# Altium integrated library Linear Technology Power Management Energy Harvesting.IntLib: 169 symbols (part 6 of 13)
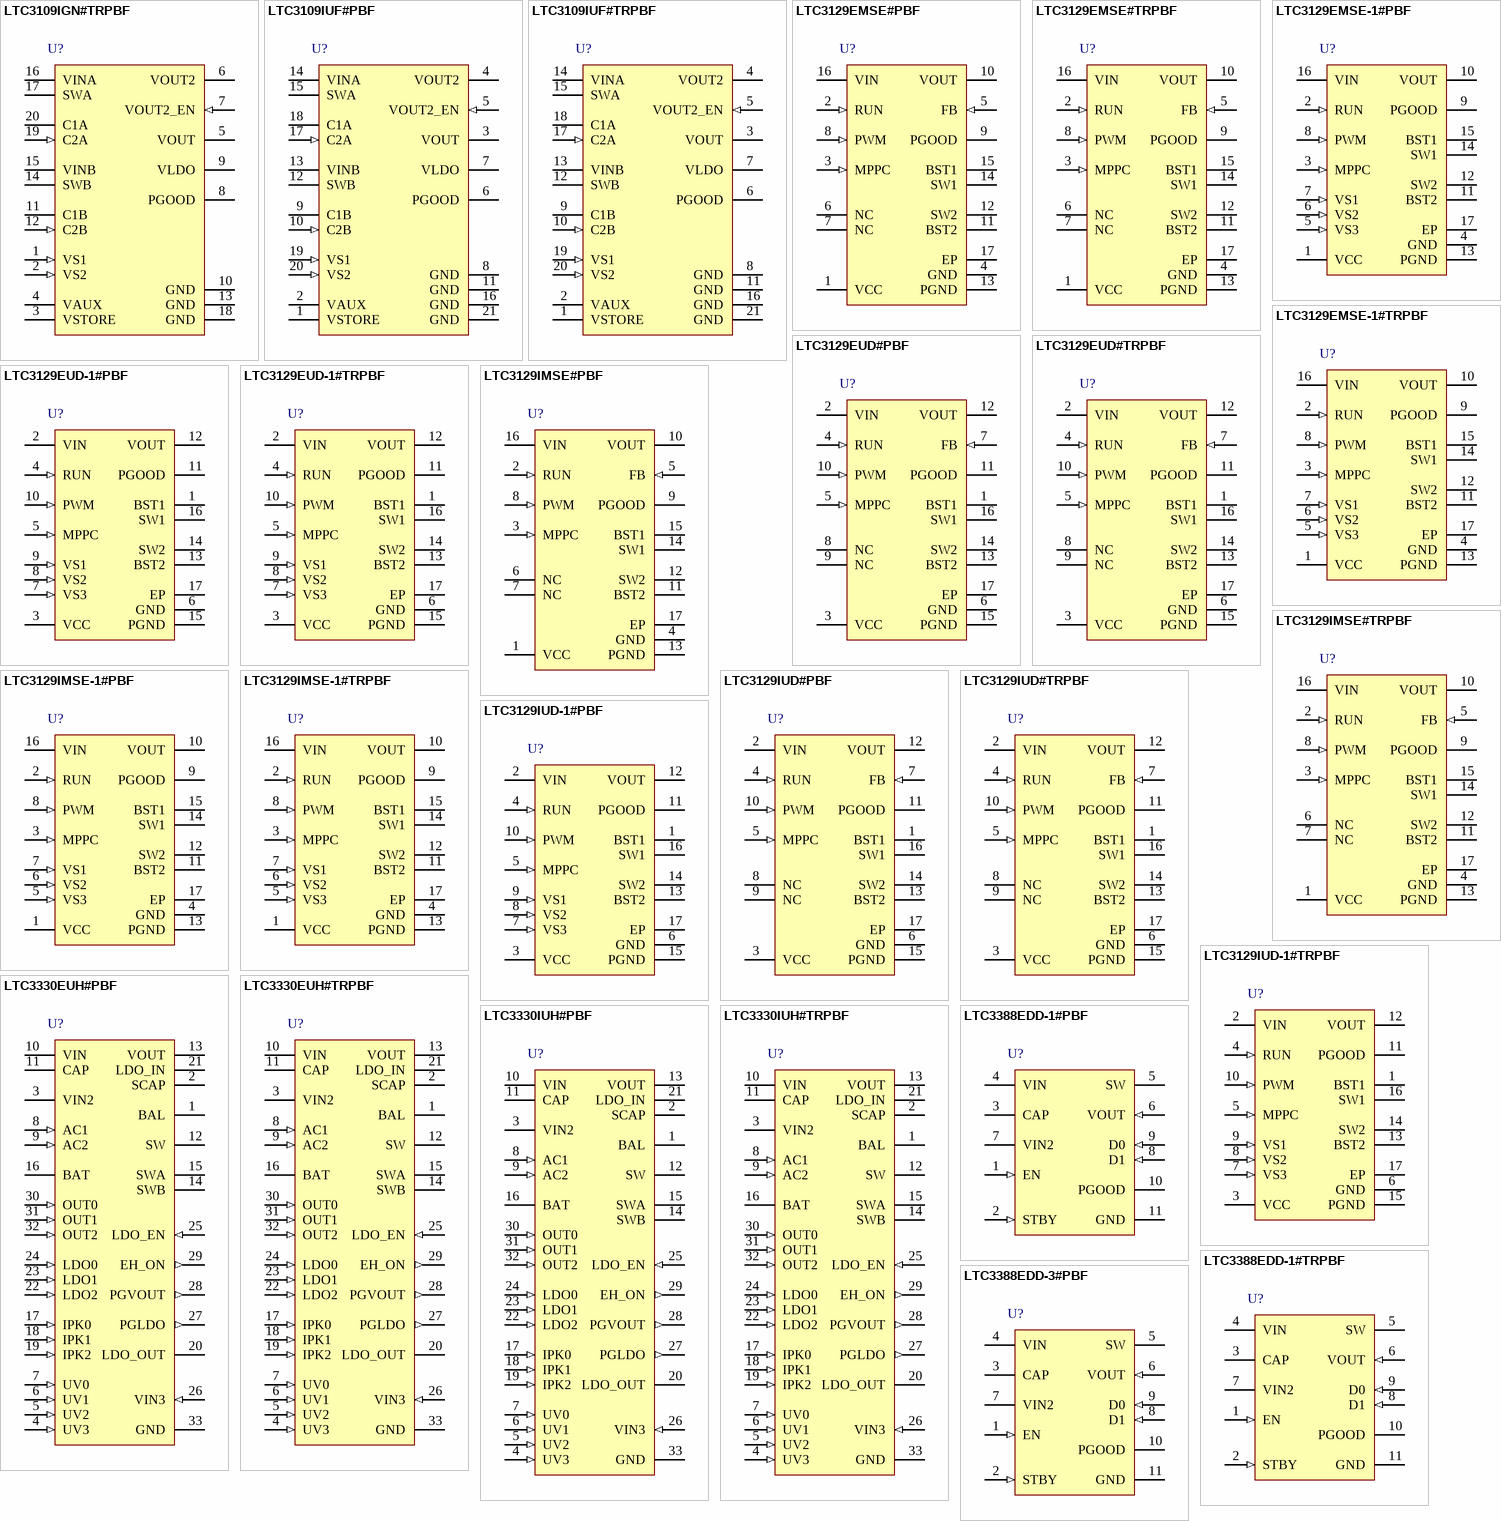
[diagram p10: symbols LTC3109IGN#TRPBF to LTC3388EDD-3#PBF]

## LTC3129EMSE#PBF
designator U?
15 V, 200 mA Synchronous Buck-Boost DC/DC Converter with 1.3 uA Quiescent Current, 16-pin SOP (MSE-16), -40 to 125 degC, Pb-Free; Manufacturer: Linear Technology; PartNumber: LTC3129EMSE#PBF; Number of Outputs: 1; Vin Max(V): 15; Vin Min(V): 1.92; Vout Max(V): 15.5; PackageVersion: Rev. F, 05/2013; PackageReference: MSE-16; PackageDescription: 16-Pin Plastic MSOP, Exposed Die Pad, Body 4.039 x 3 mm, Pitch 0.5 mm; Supplier 1: Digi-Key; Supplier Part Number 1: LTC3129EMSE#PBF-ND; Supplier 2: Farnell; Supplier Part Number 2: 2313426; Supplier 3: Newark; Supplier Part Number 3: 71W8436; RoHS: TRUE; Topology: Buck-Boost; Mounting Technology: Surface Mount; ComponentLink1Description: Manufacturer URL; ComponentLink1URL: http://www.linear.com/; ComponentLink2Description: Datasheet; ComponentLink2URL: http://cds.linear.com/docs/en/datasheet/3129f.pdf; ComponentLink3Description: Package Specification; ComponentLink3URL: http://cds.linear.com/docs/en/packaging/05081667_F_MSE16.pdf
footprint LT-MSE-16-EDP_N (SOP, 16-Leads, Body 4.1x3.1mm, Pitch 0.5mm, Thermal Pad 2.95x1.76mm, IPC Medium Density)
footprint LT-MSE-16-EDP_L (SOP, 16-Leads, Body 4.1x3.1mm, Pitch 0.5mm, Thermal Pad 2.95x1.76mm, IPC High Density)
footprint LT-MSE-16-EDP_M (SOP, 16-Leads, Body 4.1x3.1mm, Pitch 0.5mm, Thermal Pad 2.95x1.76mm, IPC Low Density)
pins: 1 VCC (power) "Output voltage of the internal voltage  regulator. This is the supply pin for the internal circuitry.  Bypass this output with a minimum of 2.2uF ceramic  capacitor close to the pin. This pin may be back-driven  by an (See Datasheet)", 2 RUN (in) "Input to the Run Comparator. Pull this  pin above 1.1V to enable the VCC regulator and above 1.28V  to enable the converter. Connecting this pin to a resistor  divider from VIN to ground allows programming a VIN start (See Datasheet)", 3 MPPC (in) "Maximum Power Point Control Programming Pin. Connect this pin to a resistor divider from  VIN to ground to enable the MPPC functionality. If the VOUT load is greater than what the power source can provide,  the MPPC will (See Datasheet)", 4 GND (power) "Signal Ground. Provide a short direct  PCB path between GND and the ground plane where the  exposed pad is soldered.", 5 FB (in) "Feedback Input to the Error Amplifier. V OUT = 1.175V • [1+(R1/R2)]. Note this pin is very noise  sensitive, therefore minimize trace length and stray capacitance. Connect to a resistor divider from VOUT to ground. The(See Datasheet)", 6 NC "Unused. These pins should be  grounded.", 7 NC "Unused. These pins should be  grounded.", 8 PWM (in) "Mode Select Pin. PWM = Low (ground): Enables automatic Burst Mode  operation. PWM = High (tie to VCC): Fixed frequency PMW operation. This pin should not be allowed to float. It has an internal  5M pull-down resistor.", 9 PGOOD (oc) "Open drain output that pulls to  ground when FB drops too far below its regulated voltage. Connect a pull-up resistor from this pin to a positive  supply. This pin can sink up to the absolute maximum  rating of 15mA when low.(See Datasheet)", 10 VOUT (power) "Output voltage of the converter.  Connect a minimum value of 4.7uF ceramic capacitor from  this pin to the ground plane, as close to the pin as possible.", 11 BST2 "Bootstrapped floating supply for  high side NMOS gate drive. Connect to SW2 through a  22nF capacitor, as close to the part as possible. The value  is not critical. Any value from 4.7nF to 47nF may be used.", 12 SW2 "Switch Pin. Connect to one side of  the inductor. Keep PCB trace lengths as short and wide  as possible to reduce EMI.", 13 PGND (power) "Power Ground. Provide a short direct PCB  path between PGND and the ground plane. The exposed  pad must also be soldered to the PCB ground plane. It  serves as a power ground connection, and as a means of  conducting heat (See Datasheet)", 14 SW1 "Switch Pin. Connect to one side of  the inductor. Keep PCB trace lengths as short and wide  as possible to reduce EMI.", 15 BST1 "Bootstrapped Floating Supply for  High Side NMOS Gate Drive. Connect to SW1 through a  22nF capacitor, as close to the part as possible. The value  is not critical. Any value from 4.7nF to 47nF may be used.", 16 VIN (power) "Input Voltage for the Converter. Connect  a minimum of 4.7uF ceramic decoupling capacitor from  this pin to the ground plane, as close to the pin as possible.", 17 EP (power) "Power Ground. Provide a short direct PCB  path between PGND and the ground plane. The exposed  pad must also be soldered to the PCB ground plane. It  serves as a power ground connection, and as a means of  conducting heat (See Datasheet)"

## LTC3129EMSE#TRPBF
designator U?
15 V, 200 mA Synchronous Buck-Boost DC/DC Converter with 1.3 uA Quiescent Current, 16-pin SOP (MSE-16), -40 to 125 degC, Pb-Free, Tape and Reel; Manufacturer: Linear Technology; PartNumber: LTC3129EMSE#TRPBF; Number of Outputs: 1; Vin Max(V): 15; Vin Min(V): 1.92; Vout Max(V): 15.75; PackageVersion: Rev. F, 05/2013; PackageReference: MSE-16; PackageDescription: 16-Pin Plastic MSOP, Exposed Die Pad, Body 4.039 x 3 mm, Pitch 0.5 mm; Supplier 1: Digi-Key; Supplier Part Number 1: LTC3129EMSE#TRPBF-ND; Supplier 2: Newark; Supplier Part Number 2: 71W8437; Packing: Tape and Reel; RoHS: TRUE; Topology: Buck-Boost; Mounting Technology: Surface Mount; ComponentLink1Description: Manufacturer URL; ComponentLink1URL: http://www.linear.com/; ComponentLink2Description: Datasheet; ComponentLink2URL: http://cds.linear.com/docs/en/datasheet/3129f.pdf; ComponentLink3Description: Package Specification; ComponentLink3URL: http://cds.linear.com/docs/en/packaging/05081667_F_MSE16.pdf
footprint LT-MSE-16-EDP_N (SOP, 16-Leads, Body 4.1x3.1mm, Pitch 0.5mm, Thermal Pad 2.95x1.76mm, IPC Medium Density)
footprint LT-MSE-16-EDP_L (SOP, 16-Leads, Body 4.1x3.1mm, Pitch 0.5mm, Thermal Pad 2.95x1.76mm, IPC High Density)
footprint LT-MSE-16-EDP_M (SOP, 16-Leads, Body 4.1x3.1mm, Pitch 0.5mm, Thermal Pad 2.95x1.76mm, IPC Low Density)
pins: 1 VCC (power) "Output voltage of the internal voltage  regulator. This is the supply pin for the internal circuitry.  Bypass this output with a minimum of 2.2uF ceramic  capacitor close to the pin. This pin may be back-driven  by an (See Datasheet)", 2 RUN (in) "Input to the Run Comparator. Pull this  pin above 1.1V to enable the VCC regulator and above 1.28V  to enable the converter. Connecting this pin to a resistor  divider from VIN to ground allows programming a VIN start (See Datasheet)", 3 MPPC (in) "Maximum Power Point Control Programming Pin. Connect this pin to a resistor divider from  VIN to ground to enable the MPPC functionality. If the VOUT load is greater than what the power source can provide,  the MPPC will (See Datasheet)", 4 GND (power) "Signal Ground. Provide a short direct  PCB path between GND and the ground plane where the  exposed pad is soldered.", 5 FB (in) "Feedback Input to the Error Amplifier. V OUT = 1.175V • [1+(R1/R2)]. Note this pin is very noise  sensitive, therefore minimize trace length and stray capacitance. Connect to a resistor divider from VOUT to ground. The(See Datasheet)", 6 NC "Unused. These pins should be  grounded.", 7 NC "Unused. These pins should be  grounded.", 8 PWM (in) "Mode Select Pin. PWM = Low (ground): Enables automatic Burst Mode  operation. PWM = High (tie to VCC): Fixed frequency PMW operation. This pin should not be allowed to float. It has an internal  5M pull-down resistor.", 9 PGOOD (oc) "Open drain output that pulls to  ground when FB drops too far below its regulated voltage. Connect a pull-up resistor from this pin to a positive  supply. This pin can sink up to the absolute maximum  rating of 15mA when low.(See Datasheet)", 10 VOUT (power) "Output voltage of the converter.  Connect a minimum value of 4.7uF ceramic capacitor from  this pin to the ground plane, as close to the pin as possible.", 11 BST2 "Bootstrapped floating supply for  high side NMOS gate drive. Connect to SW2 through a  22nF capacitor, as close to the part as possible. The value  is not critical. Any value from 4.7nF to 47nF may be used.", 12 SW2 "Switch Pin. Connect to one side of  the inductor. Keep PCB trace lengths as short and wide  as possible to reduce EMI.", 13 PGND (power) "Power Ground. Provide a short direct PCB  path between PGND and the ground plane. The exposed  pad must also be soldered to the PCB ground plane. It  serves as a power ground connection, and as a means of  conducting heat (See Datasheet)", 14 SW1 "Switch Pin. Connect to one side of  the inductor. Keep PCB trace lengths as short and wide  as possible to reduce EMI.", 15 BST1 "Bootstrapped Floating Supply for  High Side NMOS Gate Drive. Connect to SW1 through a  22nF capacitor, as close to the part as possible. The value  is not critical. Any value from 4.7nF to 47nF may be used.", 16 VIN (power) "Input Voltage for the Converter. Connect  a minimum of 4.7uF ceramic decoupling capacitor from  this pin to the ground plane, as close to the pin as possible.", 17 EP (power) "Power Ground. Provide a short direct PCB  path between PGND and the ground plane. The exposed  pad must also be soldered to the PCB ground plane. It  serves as a power ground connection, and as a means of  conducting heat (See Datasheet)"

## LTC3129EMSE-1#PBF
designator U?
15 V, 200 mA Synchronous Buck-Boost DC/DC Converter with 1.3 uA Quiescent Current, 16-pin SOP (MSE-16), -40 to 125 degC, Pb-Free; Manufacturer: Linear Technology; PartNumber: LTC3129EMSE-1#PBF; Number of Outputs: 1; Vin Max(V): 15; Vin Min(V): 1.92; Vout Max(V): 15.5; PackageVersion: Rev. F, 05/2013; PackageReference: MSE-16; PackageDescription: 16-Pin Plastic MSOP, Exposed Die Pad, Body 4.039 x 3 mm, Pitch 0.5 mm; Supplier 1: Digi-Key; Supplier Part Number 1: LTC3129EMSE-1#PBF-ND; Supplier 2: Farnell; Supplier Part Number 2: 2313427; Supplier 3: Newark; Supplier Part Number 3: 71W8434; RoHS: TRUE; Topology: Buck-Boost; Mounting Technology: Surface Mount; ComponentLink1Description: Manufacturer URL; ComponentLink1URL: http://www.linear.com/; ComponentLink2Description: Datasheet; ComponentLink2URL: http://cds.linear.com/docs/en/datasheet/31291f.pdf; ComponentLink3Description: Package Specification; ComponentLink3URL: http://cds.linear.com/docs/en/packaging/05081667_F_MSE16.pdf
footprint LT-MSE-16-EDP_N (SOP, 16-Leads, Body 4.1x3.1mm, Pitch 0.5mm, Thermal Pad 2.95x1.76mm, IPC Medium Density)
footprint LT-MSE-16-EDP_L (SOP, 16-Leads, Body 4.1x3.1mm, Pitch 0.5mm, Thermal Pad 2.95x1.76mm, IPC High Density)
footprint LT-MSE-16-EDP_M (SOP, 16-Leads, Body 4.1x3.1mm, Pitch 0.5mm, Thermal Pad 2.95x1.76mm, IPC Low Density)
pins: 1 VCC (power) "Output Voltage of the Internal Voltage Regulator. This is the supply pin for the internal circuitry. Bypass this output with a minimum of 2.2uF ceramic capacitor close to the pin. This pin may be back-driven by an external (See Datasheet)", 2 RUN (in) "Input to the Run Comparator. Pull this pin above 1.1V to enable the VCC regulator and above 1.28V to enable the converter. Connecting this pin to a resistor divider from VIN to ground allows programming a VIN start threshold (See Datasheet)", 3 MPPC (in) "Maximum Power Point Control Programming Pin. Connect this pin to a resistor divider from VIN to ground to enable the MPPC functionality. If the VOUT load is greater than what the power source can provide, the MPPC will (See Datasheet)", 4 GND (power) "Signal Ground. Provide a short direct PCB path between GND and the ground plane where the exposed pad is soldered.", 5 VS3 (in) "Output Voltage Select Pin. Connect this pin to ground or VCC to program the output voltage (see Table 1). This pin should not float or go below ground. If this pin is externally driven above VCC, a 1M resistor should be (See Datasheet)", 6 VS2 (in) "Output Voltage Select Pin. Connect this pin to ground or VCC to program the output voltage (see Table 1). This pin should not float or go below ground.", 7 VS1 (in) "Output Voltage Select Pin. Connect this pin to ground or VCC to program the output voltage (see Table 1). This pin should not float or go below ground.", 8 PWM (in) "Mode Select Pin. PWM = Low (ground): Enables automatic Burst Mode PWM = Low (ground): Enables automatic Burst Mode operation. PWM = High (tie to VCC): Fixed frequency PWM operation. This pin should not be allowed to float. (See Datasheet)", 9 PGOOD (oc) "Open drain output that pulls to ground when FB drops too far below its regulated voltage. Connect a pull-up resistor from this pin to a positive supply. This pin can sink up to the absolute maximum rating of 15mA when low. (See Datasheet)", 10 VOUT (power) "Output voltage of the converter, set by the VS1-VS3 programming pins according to Table 1. Connect a minimum value of 4.7uF ceramic capacitor from this pin to the ground plane, as close to the pin as possible.", 11 BST2 "Boot-Strapped Floating Supply for High Side NMOS Gate Drive. Connect to SW2 through a 22nF capacitor, as close to the part as possible. The value is not critical. Any value from 4.7nF to 47nF may be used", 12 SW2 "Switch Pin. Connect to one side of the inductor. Keep PCB trace lengths as short and wide as possible to reduce EMI.", 13 PGND (power) "Power Ground. Provide a short direct PCB path between PGND and the ground plane.", 14 SW1 "Switch Pin. Connect to one side of the inductor. Keep PCB trace lengths as short and wide as possible to reduce EMI.", 15 BST1 "Boot-Strapped Floating Supply for High Side NMOS Gate Drive. Connect to SW1 through a 22nF capacitor, as close to the part as possible. The value is not critical. Any value from 4.7nF to 47nF may be used.", 16 VIN (power) "Input Voltage for the Converter. Connect a minimum of 4.7uF ceramic decoupling capacitor from this pin to the ground plane, as close to the pin as possible.", 17 EP (power) "The exposed pad must also be soldered to the PCB ground plane. It serves as a power ground connection, and as a means of conducting heat away from the die."

## LTC3129EMSE-1#TRPBF
designator U?
15 V, 200 mA Synchronous Buck-Boost DC/DC Converter with 1.3 uA Quiescent Current, 16-pin SOP (MSE-16), -40 to 125 degC, Pb-Free, Tape and Reel; Manufacturer: Linear Technology; PartNumber: LTC3129EMSE-1#TRPBF; Number of Outputs: 1; Vin Max(V): 15; Vin Min(V): 1.92; Vout Max(V): 15.5; PackageVersion: Rev. F, 05/2013; PackageReference: MSE-16; PackageDescription: 16-Pin Plastic MSOP, Exposed Die Pad, Body 4.039 x 3 mm, Pitch 0.5 mm; Supplier 1: Digi-Key; Supplier Part Number 1: LTC3129EMSE-1#TRPBF-ND; Supplier 2: Newark; Supplier Part Number 2: 71W8435; Packing: Tape and Reel; RoHS: TRUE; Topology: Buck-Boost; Mounting Technology: Surface Mount; ComponentLink1Description: Manufacturer URL; ComponentLink1URL: http://www.linear.com/; ComponentLink2Description: Datasheet; ComponentLink2URL: http://cds.linear.com/docs/en/datasheet/31291f.pdf; ComponentLink3Description: Package Specification; ComponentLink3URL: http://cds.linear.com/docs/en/packaging/05081667_F_MSE16.pdf
footprint LT-MSE-16-EDP_N (SOP, 16-Leads, Body 4.1x3.1mm, Pitch 0.5mm, Thermal Pad 2.95x1.76mm, IPC Medium Density)
footprint LT-MSE-16-EDP_L (SOP, 16-Leads, Body 4.1x3.1mm, Pitch 0.5mm, Thermal Pad 2.95x1.76mm, IPC High Density)
footprint LT-MSE-16-EDP_M (SOP, 16-Leads, Body 4.1x3.1mm, Pitch 0.5mm, Thermal Pad 2.95x1.76mm, IPC Low Density)
pins: 1 VCC (power) "Output Voltage of the Internal Voltage Regulator. This is the supply pin for the internal circuitry. Bypass this output with a minimum of 2.2uF ceramic capacitor close to the pin. This pin may be back-driven by an external (See Datasheet)", 2 RUN (in) "Input to the Run Comparator. Pull this pin above 1.1V to enable the VCC regulator and above 1.28V to enable the converter. Connecting this pin to a resistor divider from VIN to ground allows programming a VIN start threshold (See Datasheet)", 3 MPPC (in) "Maximum Power Point Control Programming Pin. Connect this pin to a resistor divider from VIN to ground to enable the MPPC functionality. If the VOUT load is greater than what the power source can provide, the MPPC will (See Datasheet)", 4 GND (power) "Signal Ground. Provide a short direct PCB path between GND and the ground plane where the exposed pad is soldered.", 5 VS3 (in) "Output Voltage Select Pin. Connect this pin to ground or VCC to program the output voltage (see Table 1). This pin should not float or go below ground. If this pin is externally driven above VCC, a 1M resistor should be (See Datasheet)", 6 VS2 (in) "Output Voltage Select Pin. Connect this pin to ground or VCC to program the output voltage (see Table 1). This pin should not float or go below ground.", 7 VS1 (in) "Output Voltage Select Pin. Connect this pin to ground or VCC to program the output voltage (see Table 1). This pin should not float or go below ground.", 8 PWM (in) "Mode Select Pin. PWM = Low (ground): Enables automatic Burst Mode PWM = Low (ground): Enables automatic Burst Mode operation. PWM = High (tie to VCC): Fixed frequency PWM operation. This pin should not be allowed to float. (See Datasheet)", 9 PGOOD (oc) "Open drain output that pulls to ground when FB drops too far below its regulated voltage. Connect a pull-up resistor from this pin to a positive supply. This pin can sink up to the absolute maximum rating of 15mA when low. (See Datasheet)", 10 VOUT (power) "Output voltage of the converter, set by the VS1-VS3 programming pins according to Table 1. Connect a minimum value of 4.7uF ceramic capacitor from this pin to the ground plane, as close to the pin as possible.", 11 BST2 "Boot-Strapped Floating Supply for High Side NMOS Gate Drive. Connect to SW2 through a 22nF capacitor, as close to the part as possible. The value is not critical. Any value from 4.7nF to 47nF may be used", 12 SW2 "Switch Pin. Connect to one side of the inductor. Keep PCB trace lengths as short and wide as possible to reduce EMI.", 13 PGND (power) "Power Ground. Provide a short direct PCB path between PGND and the ground plane.", 14 SW1 "Switch Pin. Connect to one side of the inductor. Keep PCB trace lengths as short and wide as possible to reduce EMI.", 15 BST1 "Boot-Strapped Floating Supply for High Side NMOS Gate Drive. Connect to SW1 through a 22nF capacitor, as close to the part as possible. The value is not critical. Any value from 4.7nF to 47nF may be used.", 16 VIN (power) "Input Voltage for the Converter. Connect a minimum of 4.7uF ceramic decoupling capacitor from this pin to the ground plane, as close to the pin as possible.", 17 EP (power) "The exposed pad must also be soldered to the PCB ground plane. It serves as a power ground connection, and as a means of conducting heat away from the die."

## LTC3129EUD#PBF
designator U?
15 V, 200 mA Synchronous Buck-Boost DC/DC Converter with 1.3 uA Quiescent Current, 16-pin QFN (UD-16-EPV-AA), -40 to 125 degC, Pb-Free; Manufacturer: Linear Technology; PartNumber: LTC3129EUD#PBF; Number of Outputs: 1; Vin Max(V): 15; Vin Min(V): 1.92; Vout Max(V): 15.75; PackageVersion: Rev. A, 06/2010; PackageReference: UD-16; PackageDescription: 16-Pin Plastic QFN, Body 3 x 3 mm, Pitch 0.5 mm; Supplier 1: Digi-Key; Supplier Part Number 1: LTC3129EUD#PBF-ND; Supplier 2: Farnell; Supplier Part Number 2: 2313428; Supplier 3: Newark; Supplier Part Number 3: 71W8440; RoHS: TRUE; Topology: Buck-Boost; Mounting Technology: Surface Mount; Code_JEDEC: MO-220; ComponentLink1Description: Manufacturer URL; ComponentLink1URL: http://www.linear.com/; ComponentLink2Description: Datasheet; ComponentLink2URL: http://cds.linear.com/docs/en/datasheet/3129f.pdf; ComponentLink3Description: Package Specification; ComponentLink3URL: http://cds.linear.com/docs/en/packaging/QFN_16_05-08-1700.pdf
footprint LT-UD-16-EPV-AA_N (QFN, 16-Leads, Body 3.1x3.1mm, Pitch 0.5mm, Thermal Pad 1.65x1.65mm, IPC Medium Density)
footprint LT-UD-16-EPV-AA_L (QFN, 16-Leads, Body 3.1x3.1mm, Pitch 0.5mm, Thermal Pad 1.65x1.65mm, IPC High Density)
footprint LT-UD-16-EPV-AA_M (QFN, 16-Leads, Body 3.1x3.1mm, Pitch 0.5mm, Thermal Pad 1.65x1.65mm, IPC Low Density)
pins: 1 BST1 "Bootstrapped Floating Supply for  High Side NMOS Gate Drive. Connect to SW1 through a  22nF capacitor, as close to the part as possible. The value  is not critical. Any value from 4.7nF to 47nF may be used.", 2 VIN (power) "Input Voltage for the Converter. Connect  a minimum of 4.7uF ceramic decoupling capacitor from  this pin to the ground plane, as close to the pin as possible.", 3 VCC (power) "Output voltage of the internal voltage  regulator. This is the supply pin for the internal circuitry.  Bypass this output with a minimum of 2.2uF ceramic  capacitor close to the pin. This pin may be back-driven  by an (See Datasheet)", 4 RUN (in) "Input to the Run Comparator. Pull this  pin above 1.1V to enable the VCC regulator and above 1.28V  to enable the converter. Connecting this pin to a resistor  divider from VIN to ground allows programming a VIN start (See Datasheet)", 5 MPPC (in) "Maximum Power Point Control Programming Pin. Connect this pin to a resistor divider from  VIN to ground to enable the MPPC functionality. If the VOUT load is greater than what the power source can provide,  the MPPC will (See Datasheet)", 6 GND (power) "Signal Ground. Provide a short direct  PCB path between GND and the ground plane where the  exposed pad is soldered.", 7 FB (in) "Feedback Input to the Error Amplifier. V OUT = 1.175V • [1+(R1/R2)]. Note this pin is very noise  sensitive, therefore minimize trace length and stray capacitance. Connect to a resistor divider from VOUT to ground. The(See Datasheet)", 8 NC "Unused. These pins should be  grounded.", 9 NC "Unused. These pins should be  grounded.", 10 PWM (in) "Mode Select Pin. PWM = Low (ground): Enables automatic Burst Mode  operation. PWM = High (tie to VCC): Fixed frequency PMW operation. This pin should not be allowed to float. It has an internal  5M pull-down resistor.", 11 PGOOD (oc) "Open drain output that pulls to  ground when FB drops too far below its regulated voltage. Connect a pull-up resistor from this pin to a positive  supply. This pin can sink up to the absolute maximum  rating of 15mA when low.(See Datasheet)", 12 VOUT (power) "Output voltage of the converter.  Connect a minimum value of 4.7uF ceramic capacitor from  this pin to the ground plane, as close to the pin as possible.", 13 BST2 "Bootstrapped floating supply for  high side NMOS gate drive. Connect to SW2 through a  22nF capacitor, as close to the part as possible. The value  is not critical. Any value from 4.7nF to 47nF may be used.", 14 SW2 "Switch Pin. Connect to one side of  the inductor. Keep PCB trace lengths as short and wide  as possible to reduce EMI.", 15 PGND (power) "Power Ground. Provide a short direct PCB  path between PGND and the ground plane. The exposed  pad must also be soldered to the PCB ground plane. It  serves as a power ground connection, and as a means of  conducting heat (See Datasheet)", 16 SW1 "Switch Pin. Connect to one side of  the inductor. Keep PCB trace lengths as short and wide  as possible to reduce EMI.", 17 EP (power) "Power Ground. Provide a short direct PCB  path between PGND and the ground plane. The exposed  pad must also be soldered to the PCB ground plane. It  serves as a power ground connection, and as a means of  conducting heat (See Datasheet)"

## LTC3129EUD#TRPBF
designator U?
15 V, 200 mA Synchronous Buck-Boost DC/DC Converter with 1.3 uA Quiescent Current, 16-pin QFN (UD-16-EPV-AA), -40 to 125 degC, Pb-Free, Tape and Reel; Manufacturer: Linear Technology; PartNumber: LTC3129EUD#TRPBF; Number of Outputs: 1; Vin Max(V): 15; Vin Min(V): 1.92; Vout Max(V): 15.75; PackageVersion: Rev. A, 06/2010; PackageReference: UD-16; PackageDescription: 16-Pin Plastic QFN, Body 3 x 3 mm, Pitch 0.5 mm; Supplier 1: Digi-Key; Supplier Part Number 1: LTC3129EUD#TRPBF-ND; Supplier 2: Newark; Supplier Part Number 2: 71W8441; Packing: Tape and Reel; RoHS: TRUE; Topology: Buck-Boost; Mounting Technology: Surface Mount; Code_JEDEC: MO-220; ComponentLink1Description: Manufacturer URL; ComponentLink1URL: http://www.linear.com/; ComponentLink2Description: Datasheet; ComponentLink2URL: http://cds.linear.com/docs/en/datasheet/3129f.pdf; ComponentLink3Description: Package Specification; ComponentLink3URL: http://cds.linear.com/docs/en/packaging/QFN_16_05-08-1700.pdf
footprint LT-UD-16-EPV-AA_N (QFN, 16-Leads, Body 3.1x3.1mm, Pitch 0.5mm, Thermal Pad 1.65x1.65mm, IPC Medium Density)
footprint LT-UD-16-EPV-AA_L (QFN, 16-Leads, Body 3.1x3.1mm, Pitch 0.5mm, Thermal Pad 1.65x1.65mm, IPC High Density)
footprint LT-UD-16-EPV-AA_M (QFN, 16-Leads, Body 3.1x3.1mm, Pitch 0.5mm, Thermal Pad 1.65x1.65mm, IPC Low Density)
pins: 1 BST1 "Bootstrapped Floating Supply for  High Side NMOS Gate Drive. Connect to SW1 through a  22nF capacitor, as close to the part as possible. The value  is not critical. Any value from 4.7nF to 47nF may be used.", 2 VIN (power) "Input Voltage for the Converter. Connect  a minimum of 4.7uF ceramic decoupling capacitor from  this pin to the ground plane, as close to the pin as possible.", 3 VCC (power) "Output voltage of the internal voltage  regulator. This is the supply pin for the internal circuitry.  Bypass this output with a minimum of 2.2uF ceramic  capacitor close to the pin. This pin may be back-driven  by an (See Datasheet)", 4 RUN (in) "Input to the Run Comparator. Pull this  pin above 1.1V to enable the VCC regulator and above 1.28V  to enable the converter. Connecting this pin to a resistor  divider from VIN to ground allows programming a VIN start (See Datasheet)", 5 MPPC (in) "Maximum Power Point Control Programming Pin. Connect this pin to a resistor divider from  VIN to ground to enable the MPPC functionality. If the VOUT load is greater than what the power source can provide,  the MPPC will (See Datasheet)", 6 GND (power) "Signal Ground. Provide a short direct  PCB path between GND and the ground plane where the  exposed pad is soldered.", 7 FB (in) "Feedback Input to the Error Amplifier. V OUT = 1.175V • [1+(R1/R2)]. Note this pin is very noise  sensitive, therefore minimize trace length and stray capacitance. Connect to a resistor divider from VOUT to ground. The(See Datasheet)", 8 NC "Unused. These pins should be  grounded.", 9 NC "Unused. These pins should be  grounded.", 10 PWM (in) "Mode Select Pin. PWM = Low (ground): Enables automatic Burst Mode  operation. PWM = High (tie to VCC): Fixed frequency PMW operation. This pin should not be allowed to float. It has an internal  5M pull-down resistor.", 11 PGOOD (oc) "Open drain output that pulls to  ground when FB drops too far below its regulated voltage. Connect a pull-up resistor from this pin to a positive  supply. This pin can sink up to the absolute maximum  rating of 15mA when low.(See Datasheet)", 12 VOUT (power) "Output voltage of the converter.  Connect a minimum value of 4.7uF ceramic capacitor from  this pin to the ground plane, as close to the pin as possible.", 13 BST2 "Bootstrapped floating supply for  high side NMOS gate drive. Connect to SW2 through a  22nF capacitor, as close to the part as possible. The value  is not critical. Any value from 4.7nF to 47nF may be used.", 14 SW2 "Switch Pin. Connect to one side of  the inductor. Keep PCB trace lengths as short and wide  as possible to reduce EMI.", 15 PGND (power) "Power Ground. Provide a short direct PCB  path between PGND and the ground plane. The exposed  pad must also be soldered to the PCB ground plane. It  serves as a power ground connection, and as a means of  conducting heat (See Datasheet)", 16 SW1 "Switch Pin. Connect to one side of  the inductor. Keep PCB trace lengths as short and wide  as possible to reduce EMI.", 17 EP (power) "Power Ground. Provide a short direct PCB  path between PGND and the ground plane. The exposed  pad must also be soldered to the PCB ground plane. It  serves as a power ground connection, and as a means of  conducting heat (See Datasheet)"

## LTC3129EUD-1#PBF
designator U?
15 V, 200 mA Synchronous Buck-Boost DC/DC Converter with 1.3 uA Quiescent Current, 16-pin QFN (UD-16-EPV-AA), -40 to 125 degC, Pb-Free; Manufacturer: Linear Technology; PartNumber: LTC3129EUD-1#PBF; Number of Outputs: 1; Vin Max(V): 15; Vin Min(V): 1.92; Vout Max(V): 15.5; PackageVersion: Rev. A, 06/2010; PackageReference: UD-16; PackageDescription: 16-Pin Plastic QFN, Body 3 x 3 mm, Pitch 0.5 mm; Supplier 1: Digi-Key; Supplier Part Number 1: LTC3129EUD-1#PBF-ND; Supplier 2: Farnell; Supplier Part Number 2: 2313429; Supplier 3: Newark; Supplier Part Number 3: 71W8438; RoHS: TRUE; Topology: Buck-Boost; Mounting Technology: Surface Mount; Code_JEDEC: MO-220; ComponentLink1Description: Manufacturer URL; ComponentLink1URL: http://www.linear.com/; ComponentLink2Description: Datasheet; ComponentLink2URL: http://cds.linear.com/docs/en/datasheet/31291f.pdf; ComponentLink3Description: Package Specification; ComponentLink3URL: http://cds.linear.com/docs/en/packaging/QFN_16_05-08-1700.pdf
footprint LT-UD-16-EPV-AA_N (QFN, 16-Leads, Body 3.1x3.1mm, Pitch 0.5mm, Thermal Pad 1.65x1.65mm, IPC Medium Density)
footprint LT-UD-16-EPV-AA_L (QFN, 16-Leads, Body 3.1x3.1mm, Pitch 0.5mm, Thermal Pad 1.65x1.65mm, IPC High Density)
footprint LT-UD-16-EPV-AA_M (QFN, 16-Leads, Body 3.1x3.1mm, Pitch 0.5mm, Thermal Pad 1.65x1.65mm, IPC Low Density)
pins: 1 BST1 "Boot-Strapped Floating Supply for High Side NMOS Gate Drive. Connect to SW1 through a 22nF capacitor, as close to the part as possible. The value is not critical. Any value from 4.7nF to 47nF may be used.", 2 VIN (power) "Input Voltage for the Converter. Connect a minimum of 4.7uF ceramic decoupling capacitor from this pin to the ground plane, as close to the pin as possible.", 3 VCC (power) "Output Voltage of the Internal Voltage Regulator. This is the supply pin for the internal circuitry. Bypass this output with a minimum of 2.2uF ceramic capacitor close to the pin. This pin may be back-driven by an external (See Datasheet)", 4 RUN (in) "Input to the Run Comparator. Pull this pin above 1.1V to enable the VCC regulator and above 1.28V to enable the converter. Connecting this pin to a resistor divider from VIN to ground allows programming a VIN start threshold (See Datasheet)", 5 MPPC (in) "Maximum Power Point Control Programming Pin. Connect this pin to a resistor divider from VIN to ground to enable the MPPC functionality. If the VOUT load is greater than what the power source can provide, the MPPC will (See Datasheet)", 6 GND (power) "Signal Ground. Provide a short direct PCB path between GND and the ground plane where the exposed pad is soldered.", 7 VS3 (in) "Output Voltage Select Pin. Connect this pin to ground or VCC to program the output voltage (see Table 1). This pin should not float or go below ground. If this pin is externally driven above VCC, a 1M resistor should be (See Datasheet)", 8 VS2 (in) "Output Voltage Select Pin. Connect this pin to ground or VCC to program the output voltage (see Table 1). This pin should not float or go below ground.", 9 VS1 (in) "Output Voltage Select Pin. Connect this pin to ground or VCC to program the output voltage (see Table 1). This pin should not float or go below ground.", 10 PWM (in) "Mode Select Pin. PWM = Low (ground): Enables automatic Burst Mode PWM = Low (ground): Enables automatic Burst Mode operation. PWM = High (tie to VCC): Fixed frequency PWM operation. This pin should not be allowed to float. (See Datasheet)", 11 PGOOD (oc) "Open drain output that pulls to ground when FB drops too far below its regulated voltage. Connect a pull-up resistor from this pin to a positive supply. This pin can sink up to the absolute maximum rating of 15mA when low. (See Datasheet)", 12 VOUT (power) "Output voltage of the converter, set by the VS1-VS3 programming pins according to Table 1. Connect a minimum value of 4.7uF ceramic capacitor from this pin to the ground plane, as close to the pin as possible.", 13 BST2 "Boot-Strapped Floating Supply for High Side NMOS Gate Drive. Connect to SW2 through a 22nF capacitor, as close to the part as possible. The value is not critical. Any value from 4.7nF to 47nF may be used", 14 SW2 "Switch Pin. Connect to one side of the inductor. Keep PCB trace lengths as short and wide as possible to reduce EMI.", 15 PGND (power) "Power Ground. Provide a short direct PCB path between PGND and the ground plane.", 16 SW1 "Switch Pin. Connect to one side of the inductor. Keep PCB trace lengths as short and wide as possible to reduce EMI.", 17 EP (power) "The exposed pad must also be soldered to the PCB ground plane. It serves as a power ground connection, and as a means of conducting heat away from the die."

## LTC3129EUD-1#TRPBF
designator U?
15 V, 200 mA Synchronous Buck-Boost DC/DC Converter with 1.3 uA Quiescent Current, 16-pin QFN (UD-16-EPV-AA), -40 to 125 degC, Pb-Free, Tape and Reel; Manufacturer: Linear Technology; PartNumber: LTC3129EUD-1#TRPBF; Number of Outputs: 1; Vin Max(V): 15; Vin Min(V): 1.92; Vout Max(V): 15.5; PackageVersion: Rev. A, 06/2010; PackageReference: UD-16; PackageDescription: 16-Pin Plastic QFN, Body 3 x 3 mm, Pitch 0.5 mm; Supplier 1: Digi-Key; Supplier Part Number 1: LTC3129EUD-1#TRPBF-ND; Supplier 2: Newark; Supplier Part Number 2: 71W8439; Packing: Tape and Reel; RoHS: TRUE; Topology: Buck-Boost; Mounting Technology: Surface Mount; Code_JEDEC: MO-220; ComponentLink1Description: Manufacturer URL; ComponentLink1URL: http://www.linear.com/; ComponentLink2Description: Datasheet; ComponentLink2URL: http://cds.linear.com/docs/en/datasheet/31291f.pdf; ComponentLink3Description: Package Specification; ComponentLink3URL: http://cds.linear.com/docs/en/packaging/QFN_16_05-08-1700.pdf
footprint LT-UD-16-EPV-AA_N (QFN, 16-Leads, Body 3.1x3.1mm, Pitch 0.5mm, Thermal Pad 1.65x1.65mm, IPC Medium Density)
footprint LT-UD-16-EPV-AA_L (QFN, 16-Leads, Body 3.1x3.1mm, Pitch 0.5mm, Thermal Pad 1.65x1.65mm, IPC High Density)
footprint LT-UD-16-EPV-AA_M (QFN, 16-Leads, Body 3.1x3.1mm, Pitch 0.5mm, Thermal Pad 1.65x1.65mm, IPC Low Density)
pins: 1 BST1 "Boot-Strapped Floating Supply for High Side NMOS Gate Drive. Connect to SW1 through a 22nF capacitor, as close to the part as possible. The value is not critical. Any value from 4.7nF to 47nF may be used.", 2 VIN (power) "Input Voltage for the Converter. Connect a minimum of 4.7uF ceramic decoupling capacitor from this pin to the ground plane, as close to the pin as possible.", 3 VCC (power) "Output Voltage of the Internal Voltage Regulator. This is the supply pin for the internal circuitry. Bypass this output with a minimum of 2.2uF ceramic capacitor close to the pin. This pin may be back-driven by an external (See Datasheet)", 4 RUN (in) "Input to the Run Comparator. Pull this pin above 1.1V to enable the VCC regulator and above 1.28V to enable the converter. Connecting this pin to a resistor divider from VIN to ground allows programming a VIN start threshold (See Datasheet)", 5 MPPC (in) "Maximum Power Point Control Programming Pin. Connect this pin to a resistor divider from VIN to ground to enable the MPPC functionality. If the VOUT load is greater than what the power source can provide, the MPPC will (See Datasheet)", 6 GND (power) "Signal Ground. Provide a short direct PCB path between GND and the ground plane where the exposed pad is soldered.", 7 VS3 (in) "Output Voltage Select Pin. Connect this pin to ground or VCC to program the output voltage (see Table 1). This pin should not float or go below ground. If this pin is externally driven above VCC, a 1M resistor should be (See Datasheet)", 8 VS2 (in) "Output Voltage Select Pin. Connect this pin to ground or VCC to program the output voltage (see Table 1). This pin should not float or go below ground.", 9 VS1 (in) "Output Voltage Select Pin. Connect this pin to ground or VCC to program the output voltage (see Table 1). This pin should not float or go below ground.", 10 PWM (in) "Mode Select Pin. PWM = Low (ground): Enables automatic Burst Mode PWM = Low (ground): Enables automatic Burst Mode operation. PWM = High (tie to VCC): Fixed frequency PWM operation. This pin should not be allowed to float. (See Datasheet)", 11 PGOOD (oc) "Open drain output that pulls to ground when FB drops too far below its regulated voltage. Connect a pull-up resistor from this pin to a positive supply. This pin can sink up to the absolute maximum rating of 15mA when low. (See Datasheet)", 12 VOUT (power) "Output voltage of the converter, set by the VS1-VS3 programming pins according to Table 1. Connect a minimum value of 4.7uF ceramic capacitor from this pin to the ground plane, as close to the pin as possible.", 13 BST2 "Boot-Strapped Floating Supply for High Side NMOS Gate Drive. Connect to SW2 through a 22nF capacitor, as close to the part as possible. The value is not critical. Any value from 4.7nF to 47nF may be used", 14 SW2 "Switch Pin. Connect to one side of the inductor. Keep PCB trace lengths as short and wide as possible to reduce EMI.", 15 PGND (power) "Power Ground. Provide a short direct PCB path between PGND and the ground plane.", 16 SW1 "Switch Pin. Connect to one side of the inductor. Keep PCB trace lengths as short and wide as possible to reduce EMI.", 17 EP (power) "The exposed pad must also be soldered to the PCB ground plane. It serves as a power ground connection, and as a means of conducting heat away from the die."

## LTC3129IMSE#PBF
designator U?
15 V, 200 mA Synchronous Buck-Boost DC/DC Converter with 1.3 uA Quiescent Current, 16-pin SOP (MSE-16), -40 to 125 degC, Pb-Free; Manufacturer: Linear Technology; PartNumber: LTC3129IMSE#PBF; Number of Outputs: 1; Vin Max(V): 15; Vin Min(V): 1.92; Vout Max(V): 15.75; PackageVersion: Rev. F, 05/2013; PackageReference: MSE-16; PackageDescription: 16-Pin Plastic MSOP, Exposed Die Pad, Body 4.039 x 3 mm, Pitch 0.5 mm; Supplier 1: Digi-Key; Supplier Part Number 1: LTC3129IMSE#PBF-ND; Supplier 2: Farnell; Supplier Part Number 2: 2313430; Supplier 3: Newark; Supplier Part Number 3: 71W8444; RoHS: TRUE; Topology: Buck-Boost; Mounting Technology: Surface Mount; ComponentLink1Description: Manufacturer URL; ComponentLink1URL: http://www.linear.com/; ComponentLink2Description: Datasheet; ComponentLink2URL: http://cds.linear.com/docs/en/datasheet/3129f.pdf; ComponentLink3Description: Package Specification; ComponentLink3URL: http://cds.linear.com/docs/en/packaging/05081667_F_MSE16.pdf
footprint LT-MSE-16-EDP_N (SOP, 16-Leads, Body 4.1x3.1mm, Pitch 0.5mm, Thermal Pad 2.95x1.76mm, IPC Medium Density)
footprint LT-MSE-16-EDP_L (SOP, 16-Leads, Body 4.1x3.1mm, Pitch 0.5mm, Thermal Pad 2.95x1.76mm, IPC High Density)
footprint LT-MSE-16-EDP_M (SOP, 16-Leads, Body 4.1x3.1mm, Pitch 0.5mm, Thermal Pad 2.95x1.76mm, IPC Low Density)
pins: 1 VCC (power) "Output voltage of the internal voltage  regulator. This is the supply pin for the internal circuitry.  Bypass this output with a minimum of 2.2uF ceramic  capacitor close to the pin. This pin may be back-driven  by an (See Datasheet)", 2 RUN (in) "Input to the Run Comparator. Pull this  pin above 1.1V to enable the VCC regulator and above 1.28V  to enable the converter. Connecting this pin to a resistor  divider from VIN to ground allows programming a VIN start (See Datasheet)", 3 MPPC (in) "Maximum Power Point Control Programming Pin. Connect this pin to a resistor divider from  VIN to ground to enable the MPPC functionality. If the VOUT load is greater than what the power source can provide,  the MPPC will (See Datasheet)", 4 GND (power) "Signal Ground. Provide a short direct  PCB path between GND and the ground plane where the  exposed pad is soldered.", 5 FB (in) "Feedback Input to the Error Amplifier. V OUT = 1.175V • [1+(R1/R2)]. Note this pin is very noise  sensitive, therefore minimize trace length and stray capacitance. Connect to a resistor divider from VOUT to ground. The(See Datasheet)", 6 NC "Unused. These pins should be  grounded.", 7 NC "Unused. These pins should be  grounded.", 8 PWM (in) "Mode Select Pin. PWM = Low (ground): Enables automatic Burst Mode  operation. PWM = High (tie to VCC): Fixed frequency PMW operation. This pin should not be allowed to float. It has an internal  5M pull-down resistor.", 9 PGOOD (oc) "Open drain output that pulls to  ground when FB drops too far below its regulated voltage. Connect a pull-up resistor from this pin to a positive  supply. This pin can sink up to the absolute maximum  rating of 15mA when low.(See Datasheet)", 10 VOUT (power) "Output voltage of the converter.  Connect a minimum value of 4.7uF ceramic capacitor from  this pin to the ground plane, as close to the pin as possible.", 11 BST2 "Bootstrapped floating supply for  high side NMOS gate drive. Connect to SW2 through a  22nF capacitor, as close to the part as possible. The value  is not critical. Any value from 4.7nF to 47nF may be used.", 12 SW2 "Switch Pin. Connect to one side of  the inductor. Keep PCB trace lengths as short and wide  as possible to reduce EMI.", 13 PGND (power) "Power Ground. Provide a short direct PCB  path between PGND and the ground plane. The exposed  pad must also be soldered to the PCB ground plane. It  serves as a power ground connection, and as a means of  conducting heat (See Datasheet)", 14 SW1 "Switch Pin. Connect to one side of  the inductor. Keep PCB trace lengths as short and wide  as possible to reduce EMI.", 15 BST1 "Bootstrapped Floating Supply for  High Side NMOS Gate Drive. Connect to SW1 through a  22nF capacitor, as close to the part as possible. The value  is not critical. Any value from 4.7nF to 47nF may be used.", 16 VIN (power) "Input Voltage for the Converter. Connect  a minimum of 4.7uF ceramic decoupling capacitor from  this pin to the ground plane, as close to the pin as possible.", 17 EP (power) "Power Ground. Provide a short direct PCB  path between PGND and the ground plane. The exposed  pad must also be soldered to the PCB ground plane. It  serves as a power ground connection, and as a means of  conducting heat (See Datasheet)"

## LTC3129IMSE#TRPBF
designator U?
15 V, 200 mA Synchronous Buck-Boost DC/DC Converter with 1.3 uA Quiescent Current, 16-pin SOP (MSE-16), -40 to 125 degC, Pb-Free, Tape and Reel; Manufacturer: Linear Technology; PartNumber: LTC3129IMSE#TRPBF; Number of Outputs: 1; Vin Max(V): 15; Vin Min(V): 1.92; Vout Max(V): 15.5; PackageVersion: Rev. F, 05/2013; PackageReference: MSE-16; PackageDescription: 16-Pin Plastic MSOP, Exposed Die Pad, Body 4.039 x 3 mm, Pitch 0.5 mm; Supplier 1: Digi-Key; Supplier Part Number 1: LTC3129IMSE#TRPBF-ND; Supplier 2: Newark; Supplier Part Number 2: 71W8445; Packing: Tape and Reel; RoHS: TRUE; Topology: Buck-Boost; Mounting Technology: Surface Mount; ComponentLink1Description: Manufacturer URL; ComponentLink1URL: http://www.linear.com/; ComponentLink2Description: Datasheet; ComponentLink2URL: http://cds.linear.com/docs/en/datasheet/3129f.pdf; ComponentLink3Description: Package Specification; ComponentLink3URL: http://cds.linear.com/docs/en/packaging/05081667_F_MSE16.pdf
footprint LT-MSE-16-EDP_N (SOP, 16-Leads, Body 4.1x3.1mm, Pitch 0.5mm, Thermal Pad 2.95x1.76mm, IPC Medium Density)
footprint LT-MSE-16-EDP_L (SOP, 16-Leads, Body 4.1x3.1mm, Pitch 0.5mm, Thermal Pad 2.95x1.76mm, IPC High Density)
footprint LT-MSE-16-EDP_M (SOP, 16-Leads, Body 4.1x3.1mm, Pitch 0.5mm, Thermal Pad 2.95x1.76mm, IPC Low Density)
pins: 1 VCC (power) "Output voltage of the internal voltage  regulator. This is the supply pin for the internal circuitry.  Bypass this output with a minimum of 2.2uF ceramic  capacitor close to the pin. This pin may be back-driven  by an (See Datasheet)", 2 RUN (in) "Input to the Run Comparator. Pull this  pin above 1.1V to enable the VCC regulator and above 1.28V  to enable the converter. Connecting this pin to a resistor  divider from VIN to ground allows programming a VIN start (See Datasheet)", 3 MPPC (in) "Maximum Power Point Control Programming Pin. Connect this pin to a resistor divider from  VIN to ground to enable the MPPC functionality. If the VOUT load is greater than what the power source can provide,  the MPPC will (See Datasheet)", 4 GND (power) "Signal Ground. Provide a short direct  PCB path between GND and the ground plane where the  exposed pad is soldered.", 5 FB (in) "Feedback Input to the Error Amplifier. V OUT = 1.175V • [1+(R1/R2)]. Note this pin is very noise  sensitive, therefore minimize trace length and stray capacitance. Connect to a resistor divider from VOUT to ground. The(See Datasheet)", 6 NC "Unused. These pins should be  grounded.", 7 NC "Unused. These pins should be  grounded.", 8 PWM (in) "Mode Select Pin. PWM = Low (ground): Enables automatic Burst Mode  operation. PWM = High (tie to VCC): Fixed frequency PMW operation. This pin should not be allowed to float. It has an internal  5M pull-down resistor.", 9 PGOOD (oc) "Open drain output that pulls to  ground when FB drops too far below its regulated voltage. Connect a pull-up resistor from this pin to a positive  supply. This pin can sink up to the absolute maximum  rating of 15mA when low.(See Datasheet)", 10 VOUT (power) "Output voltage of the converter.  Connect a minimum value of 4.7uF ceramic capacitor from  this pin to the ground plane, as close to the pin as possible.", 11 BST2 "Bootstrapped floating supply for  high side NMOS gate drive. Connect to SW2 through a  22nF capacitor, as close to the part as possible. The value  is not critical. Any value from 4.7nF to 47nF may be used.", 12 SW2 "Switch Pin. Connect to one side of  the inductor. Keep PCB trace lengths as short and wide  as possible to reduce EMI.", 13 PGND (power) "Power Ground. Provide a short direct PCB  path between PGND and the ground plane. The exposed  pad must also be soldered to the PCB ground plane. It  serves as a power ground connection, and as a means of  conducting heat (See Datasheet)", 14 SW1 "Switch Pin. Connect to one side of  the inductor. Keep PCB trace lengths as short and wide  as possible to reduce EMI.", 15 BST1 "Bootstrapped Floating Supply for  High Side NMOS Gate Drive. Connect to SW1 through a  22nF capacitor, as close to the part as possible. The value  is not critical. Any value from 4.7nF to 47nF may be used.", 16 VIN (power) "Input Voltage for the Converter. Connect  a minimum of 4.7uF ceramic decoupling capacitor from  this pin to the ground plane, as close to the pin as possible.", 17 EP (power) "Power Ground. Provide a short direct PCB  path between PGND and the ground plane. The exposed  pad must also be soldered to the PCB ground plane. It  serves as a power ground connection, and as a means of  conducting heat (See Datasheet)"